# Altium schematic symbol library G800LE300018YEU.SchLib: 1 symbol
Pins are listed as number, name and electrical type; pins without a type are passive.

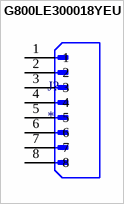
[diagram p0: symbol G800LE300018YEU]

## G800LE300018YEU
designator J?
MF: {'manufacturer': u'Amphenol ICC (Commercial Products)'}; MP: G800LE300018YEU; Availability: Unavailable; Package: None; Value: *; Price: None
footprint AMPHENOL_G800LE300018YEU
pins: 1, 2, 3, 4, 5, 6, 7, 8